# Altium footprint library SPARKFUN_FLIR_DEV_KIT.PcbLib: 1 footprints
Each footprint in its own frame and in the unit in brackets; x right, y up, seen from the top. Pads: shape width x height; smd on the part's side, far side on the other; paste and mask are expansions set on the pad; w line width, h text height; cw(c..) or ccw(c..) is an arc to the next point about the centre after c.
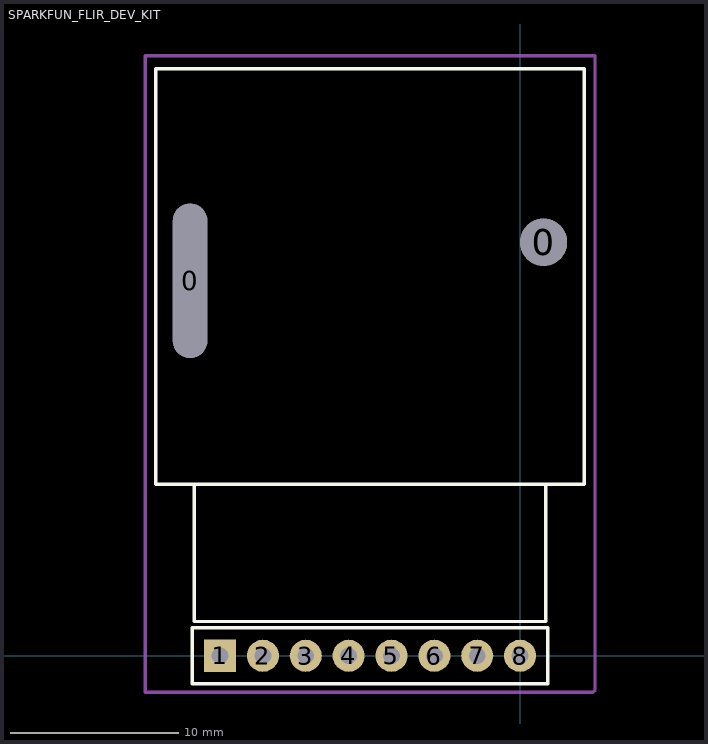
[diagram p0: the footprint, top view; thin cyan lines are the x and y axes]

## SPARKFUN_FLIR_DEV_KIT [mil]
pads (10):
  oval 80x360 hole 80 slot 360 at 90 deg unplated: 0(-770,875)
  round 110 hole 110 unplated: 0(55,965)
  rect 75x75 hole 39.37: 1(-700,0)
  round 75 hole 39.37: 2(-600,0) 3(-500,0) 4(-400,0) 5(-300,0) 6(-200,0) 7(-100,0) 8(0,0)
Top Overlay:
  lines w7.87: -850,400 -850,1370 150,1370 150,400 -850,400 ; -765,-65 -765,65 65,65 65,-45 65,-65 -765,-65 ; -760,80 -760,400 60,400 60,80 -760,80
Mechanical 13:
  lines w7.87: -875,-85 -875,1400 175,1400 175,-80 170,-85 -875,-85